# EAGLE library part TFT160X128 (library cellphone)
PIN HEADER
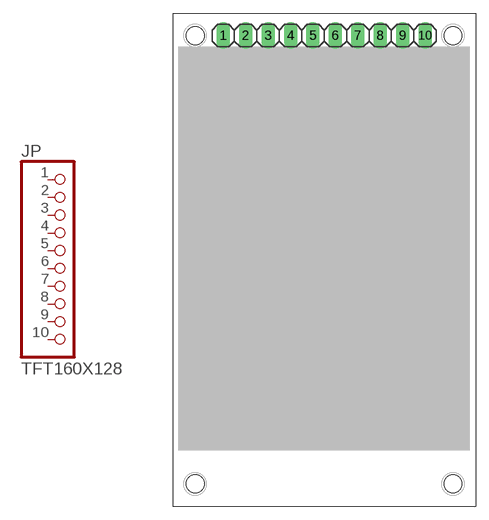
[diagram p0: symbol with the pads of TFT1.8; footprint TFT1.8]

Designator prefix JP

## TFT160X128  [TFT1.8]
1  LITE  pas
2  MISO  pas
3  SCK  pas
4  MOSI  pas
5  TFT_CS  pas
6  CARD_CS  pas
7  D/C  pas
8  RESET  pas
9  VCC  pas
10  GND  pas

## Footprint TFT1.8 (pad centres in mm)
PIN HEADER
drill 1.016 long: 1 -11.43,0; 2 -8.89,0; 3 -6.35,0; 4 -3.81,0; 5 -1.27,0; 6 1.27,0; 7 3.81,0; 8 6.35,0; 9 8.89,0; 10 11.43,0
hole 2 at -14.6,-50.8
hole 2 at 14.6,-50.8
hole 2 at 14.6,0
hole 2 at -14.6,0